# Altium schematic symbol library SCH - FUSE - LITTELFUSE - 0154001DR.SCHLIB: 1 symbol
Pins are listed as number, name and electrical type; pins without a type are passive.

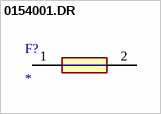
[diagram p0: symbol 0154001.DR]

## 0154001.DR
designator F?
Fuse
pins: 1, 2